# Altium footprint library CONV_RFB-0505S.PcbLib: 1 footprints
Each footprint in its own frame and in the unit in brackets; x right, y up, seen from the top. Pads: shape width x height; smd on the part's side, far side on the other; paste and mask are expansions set on the pad; w line width, h text height; cw(c..) or ccw(c..) is an arc to the next point about the centre after c.
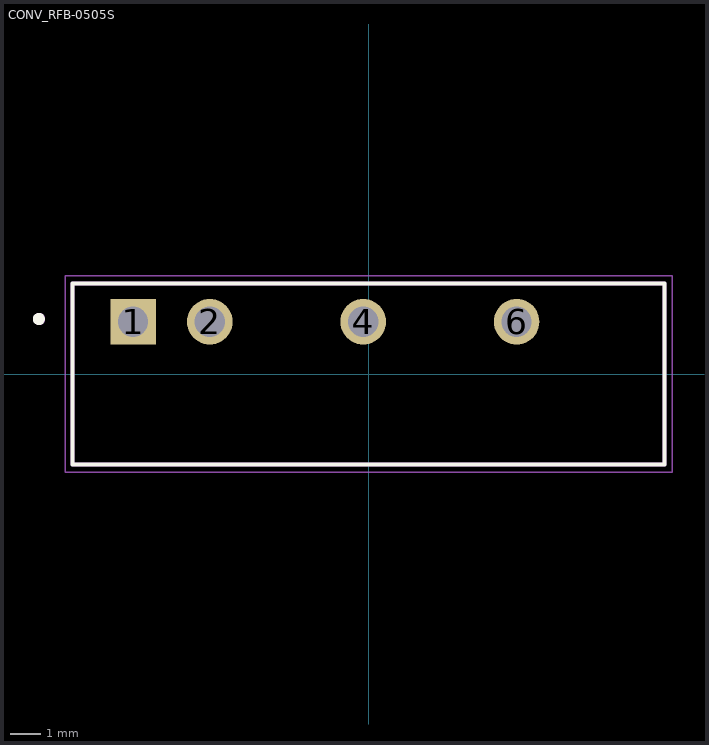
[diagram p0: the footprint, top view; thin cyan lines are the x and y axes]

## CONV_RFB-0505S [mm]
height 10.2
pads (4):
  rect 1.508x1.508 / inner round 1.508 / far side rect 1.508x1.508 hole 1: 1(-7.8,1.73)
  round 1.508 hole 1: 2(-5.26,1.73) 4(-0.18,1.73) 6(4.9,1.73)
Top Overlay:
  circle w0.2: c-10.92,1.82 r0.1
  lines w0.127: -9.8,-3 9.8,-3 9.8,3 -9.8,3 -9.8,-3
Assembly Top:
  circle w0.2: c-10.91,1.82 r0.1
  lines w0.127: -9.8,-3 9.8,-3 9.8,3 -9.8,3 -9.8,-3
Courtyard Top:
  lines w0.05: -10.05,-3.25 10.05,-3.25 10.05,3.25 -10.05,3.25 -10.05,-3.25
3D body "step_temp.STEP": height 9.7, standoff -4.6, extent -9.8,-3 9.8,3